# Altium footprint library STM32-V5_PCB封装(AD10).PcbLib: 68 footprints (part 3 of 5)
Each footprint in its own frame and in the unit in brackets; x right, y up, seen from the top. Pads: shape width x height; smd on the part's side, far side on the other; paste and mask are expansions set on the pad; w line width, h text height; cw(c..) or ccw(c..) is an arc to the next point about the centre after c.
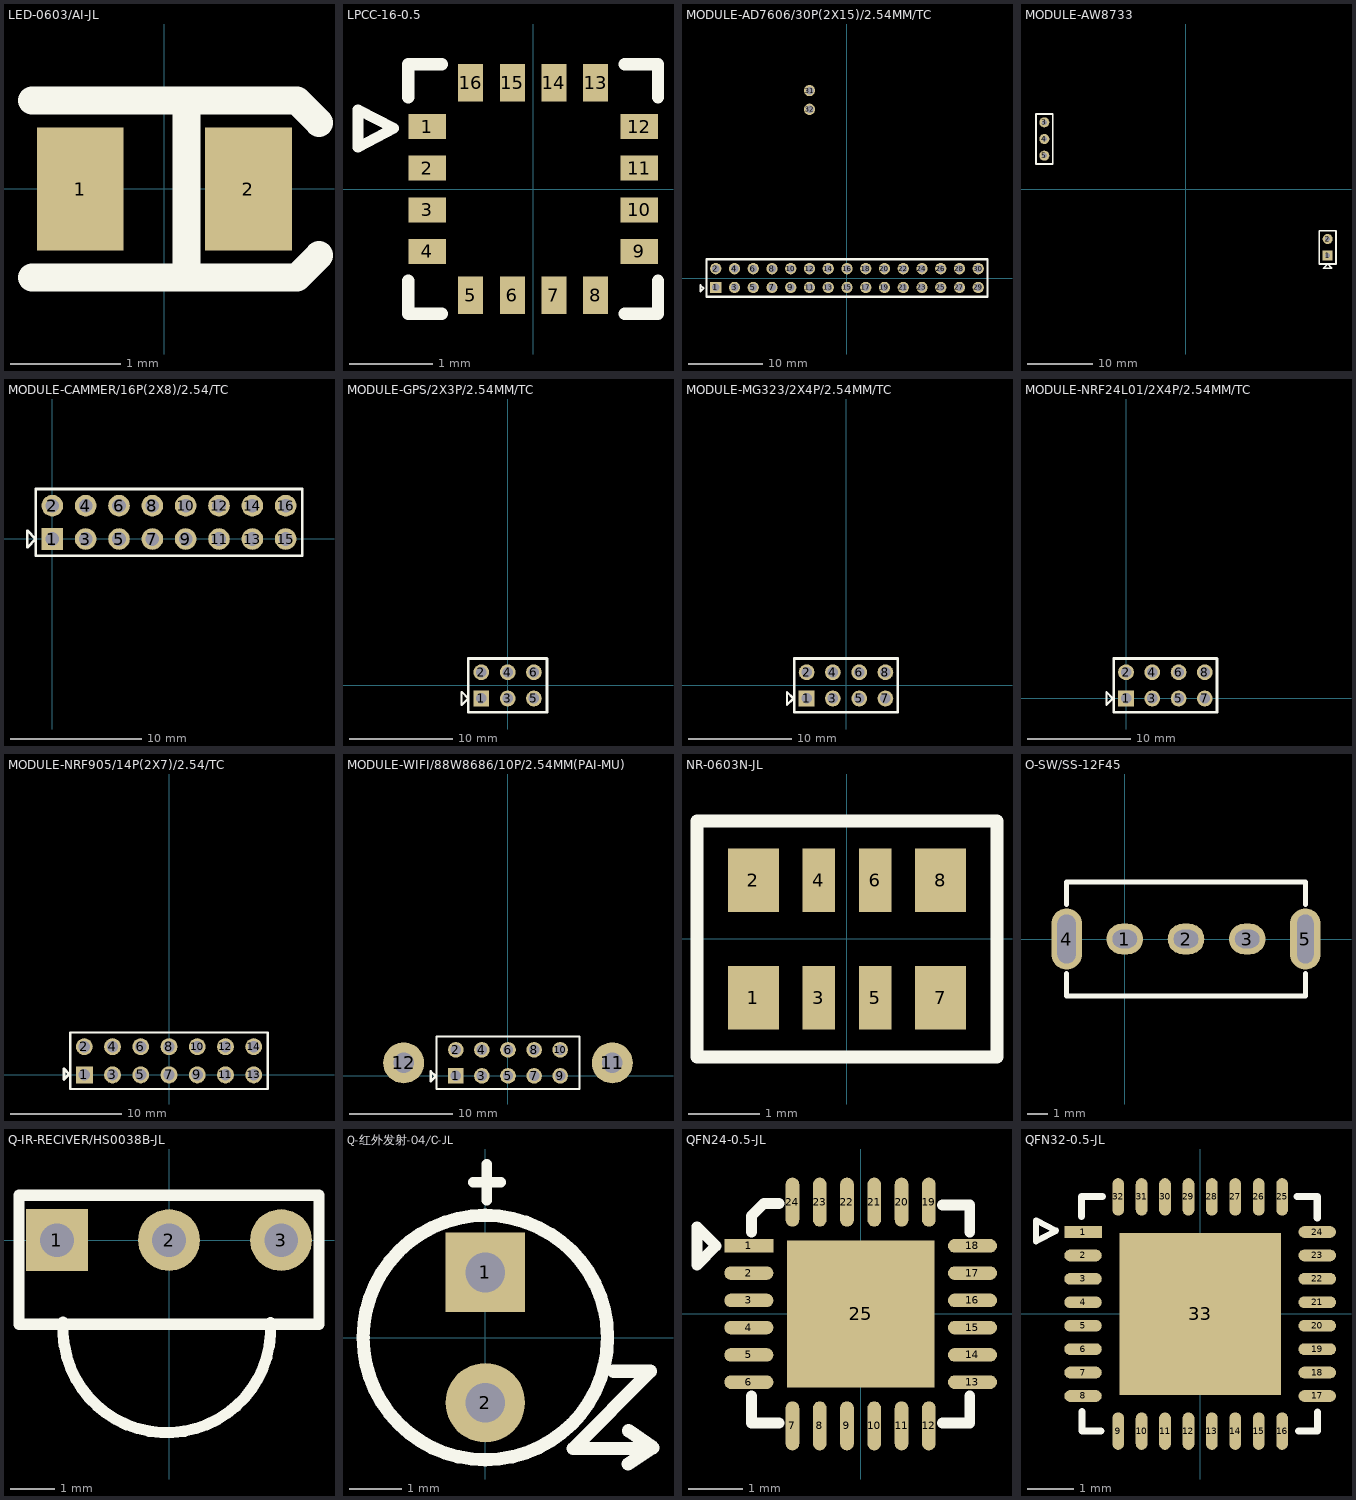
[diagram p2: the footprints below, top view; thin cyan lines are the x and y axes]

## LED-0603/AI-JL [mm]
pads (2):
  rect 0.787x1.11 smd: 1(-0.761,0) 2(0.762,0)
Top Overlay:
  lines w0.254: -1.2,-0.8 1.2,-0.8 1.4,-0.6 ; -1.2,0.8 1.2,0.8 1.4,0.6 ; 0.2,-0.7 0.2,0.7

## LPCC-16-0.5 [mm]
pads (16):
  rect 0.45x0.3 smd: 1(-1.275,0.75) 2(-1.275,0.25) 3(-1.275,-0.25) 4(-1.275,-0.75) 9(1.275,-0.75) 10(1.275,-0.25) 11(1.275,0.25) 12(1.275,0.75)
  rect 0.3x0.45 smd: 5(-0.75,-1.275) 6(-0.25,-1.275) 7(0.25,-1.275) 8(0.75,-1.275) 13(0.75,1.275) 14(0.25,1.275) 15(-0.25,1.275) 16(-0.75,1.275)
Top Overlay:
  lines w0.127: -2.104,0.5 -2.104,0.95 -1.673,0.73 -2.104,0.5
  lines w0.15: -1.5,-1.1 -1.5,-1.5 -1.1,-1.5 ; -1.5,1.1 -1.5,1.5 -1.1,1.5 ; 1.1,-1.5 1.5,-1.5 1.5,-1.1 ; 1.1,1.5 1.5,1.5 1.5,1.1

## MODULE-AD7606/30P(2X15)/2.54MM/TC [mil]
pads (32):
  rect 60x60 hole 40: 1(-700,-50)
  round 60 hole 40: 2(-700,50) 3(-600,-50) 4(-600,50) 5(-500,-50) 6(-500,50) 7(-400,-50) 8(-400,50) 9(-300,-50) 10(-300,50) 11(-200,-50) 12(-200,50) 13(-100,-50) 14(-100,50) 15(0,-50) 16(0,50) 17(100,-50) 18(100,50) 19(200,-50) 20(200,50) 21(300,-50) 22(300,50) 23(400,-50) 24(400,50) 25(500,-50) 26(500,50) 27(600,-50) 28(600,50) 29(700,-50) 30(700,50) 31(-200,1000) 32(-200,900)
Top Overlay:
  lines w10: -781.63,-71.14 -780.22,-68.31 -780.22,-71.61 -764.04,-55.43 -781.63,-37.84 -781.63,-71.14
  lines w12: -750,-100 750,-100 750,100 -750,100 -750,-100
Drill Drawing:
  lines w10: -800,-125 -800,1075 800,1075 800,-125 -800,-125 ; -50,850 -50,1050 750,1050 750,850 -50,850

## MODULE-AW8733 [mil]
pads (5):
  rect 60x60 hole 30: 1(850,-400)
  round 60 hole 30: 2(850,-300) 3(-850,400) 4(-850,300) 5(-850,200)
Top Overlay:
  lines w10: -900,150 -900,450 -800,450 -800,150 -900,150 ; 800,-450 800,-250 900,-250 900,-450 800,-450 ; 825,-475 875,-475 850,-450 825,-475
Drill Drawing:
  lines w10: -800,-550 -800,-600 ; -800,550 -800,600 ; -750,-600 -800,-600 ; -750,600 -800,600 ; -140.24,199.94 ccw(c-89.81,-150) -139.63,-500.03 ; -139.81,-500 370.56,-500 ; -139.81,200 370.56,200 ; 370.4,200.01 cw(c353.89,-150) 371.01,-499.98 ; 750,-600 800,-600 ; 750,600 800,600 ; 800,-550 800,-600 ; 800,550 800,600 ; -800,-600 -800,600 ; -800,-600 800,-600 ; -800,600 800,600 ; 800,-600 800,600

## MODULE-CAMMER/16P(2X8)/2.54/TC [mil]
pads (16):
  rect 65x65 hole 41: 1(0,0)
  round 65 hole 41: 2(0,100) 3(100,0) 4(100,100) 5(200,0) 6(200,100) 7(300,0) 8(300,100) 9(400,0) 10(400,100) 11(500,0) 12(500,100) 13(600,0) 14(600,100) 15(700,0) 16(700,100)
Top Overlay:
  lines w7.87: -75,-25 -75,25 -50,0 -75,-25 ; -50,-50 -50,150 750,150 750,-50 -50,-50
Drill Drawing:
  lines w7.87: -100,-100 -100,150 800,150 800,-100 -100,-100 ; 200,-300 200,-100 500,-100 500,-300 200,-300

## MODULE-GPS/2X3P/2.54MM/TC [mil]
pads (6):
  rect 60x60 hole 40: 1(-100,-50)
  round 60 hole 40: 2(-100,50) 3(0,-50) 4(0,50) 5(100,-50) 6(100,50)
Top Overlay:
  lines w7.87: -175,-75 -175,-25 -150,-50 -175,-75
  lines w10: -150,-102.36 150,-102.36 150,102.36 -150,102.36 -150,-102.36
Drill Drawing:
  lines w10: -324.01,-109.05 -324.01,1032.68 326.77,1032.68 326.77,-109.05 -324.01,-109.05

## MODULE-MG323/2X4P/2.54MM/TC [mil]
pads (8):
  rect 60x60 hole 40: 1(-150,-50)
  round 60 hole 40: 2(-150,50) 3(-50,-50) 4(-50,50) 5(50,-50) 6(50,50) 7(150,-50) 8(150,50)
Top Overlay:
  lines w7.87: -225,-75 -225,-25 -200,-50 -225,-75
  lines w10: -196.46,-102.36 196.46,-102.36 196.46,102.36 -196.46,102.36 -196.46,-102.36
Drill Drawing:
  lines w10: -374.02,-109.05 -374.02,1032.68 381.5,1032.68 381.5,-109.05 -374.02,-109.05

## MODULE-NRF24L01/2X4P/2.54MM/TC [mil]
pads (8):
  rect 60x60 hole 40: 1(0,0)
  round 60 hole 40: 2(0,100) 3(100,0) 4(100,100) 5(200,0) 6(200,100) 7(300,0) 8(300,100)
Top Overlay:
  lines w7.87: -75,-25 -75,25 -50,0 -75,-25
  lines w10: -46.46,-52.36 346.46,-52.36 346.46,152.36 -46.46,152.36 -46.46,-52.36
Drill Drawing:
  lines w10: -59.06,-59.06 -59.06,1082.68 531.5,1082.68 531.5,-59.06 -59.06,-59.06

## MODULE-NRF905/14P(2X7)/2.54/TC [mil]
pads (14):
  rect 60x60 hole 40: 1(-300,0)
  round 60 hole 40: 2(-300,100) 3(-200,0) 4(-200,100) 5(-100,0) 6(-100,100) 7(0,0) 8(0,100) 9(100,0) 10(100,100) 11(200,0) 12(200,100) 13(300,0) 14(300,100)
Top Overlay:
  lines w7.87: -350,-50 -350,150 350,150 350,-50 -350,-50
  lines w10: -372.52,-16.65 -353.33,2.54 -353.33,3.03 -353.82,3.03 -372.52,21.73 -372.52,-16.65
Drill Drawing:
  lines w7.87: -374.02,-50 -374.02,1012.99 374.01,1012.99 374.01,-50 -374.02,-50

## MODULE-WIFI/88W8686/10P/2.54MM(PAI-MU) [mil]
pads (12):
  rect 60x60 hole 40: 1(-200,0)
  round 60 hole 40: 2(-200,100) 3(-100,0) 4(-100,100) 5(0,0) 6(0,100) 7(100,0) 8(100,100) 9(200,0) 10(200,100)
  round 157.48 hole 78.74: 11(400,50) 12(-400,50)
Top Overlay:
  lines w7.87: -274.02,-50.16 274.68,-50.16 274.68,150.35 -274.02,150.35 -274.02,-50.16
  lines w10: -296.65,-20.87 -277.46,-1.67 -277.46,-1.18 -277.95,-1.18 -296.65,17.52 -296.65,-20.87
Drill Drawing:
  lines w7.87: -500,-50 500,-50 500,1100 -500,1100 -500,-50

## NR-0603N-JL [mm]
pads (8):
  rect 0.71x0.89 smd: 1(-1.31,-0.825) 2(-1.31,0.825) 7(1.31,-0.825) 8(1.31,0.825)
  rect 0.46x0.89 smd: 3(-0.395,-0.825) 4(-0.395,0.825) 5(0.395,-0.825) 6(0.395,0.825)
Top Overlay:
  lines w0.178: -2.1,-1.651 -2.1,1.651 2.1,1.651 2.1,-1.651 -2.1,-1.651

## O-SW/SS-12F45 [mm]
pads (5):
  oval 1.8x1.5 hole 0.9 slot 1.2 at 0 deg: 1(0,0) 2(3,0) 3(6,0)
  oval 1.5x3 hole 0.9 slot 2.4 at 90 deg: 4(-2.85,0)
  oval 1.5x3 hole 0.8 slot 2.4 at 90 deg: 5(8.85,0)
Top Overlay:
  lines w0.254: -2.85,-1.7 -2.85,-2.8 8.85,-2.8 8.85,-1.7 ; -2.85,1.7 -2.85,2.8 8.85,2.8 8.85,1.7

## Q-IR-RECIVER/HS0038B-JL [mm]
pads (3):
  rect 1.4x1.4 hole 0.762: 1(-2.54,0)
  round 1.4 hole 0.762: 2(0,0) 3(2.54,0)
Top Overlay:
  lines w0.254: -2.4,-1.863 ccw(c-0.05,-2.011) 2.3,-1.867 ; -3.4,-1.905 -3.4,1.016 3.4,1.016 3.4,-1.905 -3.4,-1.905

## Q-红外发射-04/C-JL [mil]
pads (2):
  rect 60x60 hole 30: 1(0,49.21)
  round 60 hole 30: 2(0,-49.21)
Top Overlay:
  circle w10: c0,0 r92.32
  lines w7.87: -9.06,117.32 11.81,117.32 ; 1.18,103.54 1.18,131.1
  lines w10: 96.77,-25.47 124.68,-25.47 66.34,-83.82 119.65,-83.82 ; 107.76,-95.51 126.53,-83.15 108.23,-70.31

## QFN24-0.5-JL [mm]
pads (25):
  rect 0.9x0.25 smd: 1(-2.05,1.25)
  oval 0.9x0.25 smd: 2(-2.05,0.75) 3(-2.05,0.25) 4(-2.05,-0.25) 5(-2.05,-0.75) 6(-2.05,-1.25) 13(2.05,-1.25) 14(2.05,-0.75) 15(2.05,-0.25) 16(2.05,0.25) 17(2.05,0.75) 18(2.05,1.25)
  oval 0.25x0.9 smd: 7(-1.25,-2.05) 8(-0.75,-2.05) 9(-0.25,-2.05) 10(0.25,-2.05) 11(0.75,-2.05) 12(1.25,-2.05) 19(1.25,2.05) 20(0.75,2.05) 21(0.25,2.05) 22(-0.25,2.05) 23(-0.75,2.05) 24(-1.25,2.05)
  rect 2.7x2.7 smd: 25(0,0)
Top Overlay:
  lines w0.2: -2,-1.5 -2,-2 -1.5,-2 ; -2,1.5 -2,1.8 -1.775,2.025 -1.5,2.025 ; 1.5,-2 2,-2 2,-1.5 ; 1.5,2 2,2 2,1.5 ; -3,0.9 -2.65,1.25 -3,1.6 -3,0.9

## QFN32-0.5-JL [mm]
pads (33):
  rect 0.8x0.25 smd: 1(-2.5,1.75)
  oval 0.8x0.25 smd: 2(-2.5,1.25) 3(-2.5,0.75) 4(-2.5,0.25) 5(-2.5,-0.25) 6(-2.5,-0.75) 7(-2.5,-1.25) 8(-2.5,-1.75) 17(2.5,-1.75) 18(2.5,-1.25) 19(2.5,-0.75) 20(2.5,-0.25) 21(2.5,0.25) 22(2.5,0.75) 23(2.5,1.25) 24(2.5,1.75)
  oval 0.25x0.8 smd: 9(-1.75,-2.5) 10(-1.25,-2.5) 11(-0.75,-2.5) 12(-0.25,-2.5) 13(0.25,-2.5) 14(0.75,-2.5) 15(1.25,-2.5) 16(1.75,-2.5) 25(1.75,2.5) 26(1.25,2.5) 27(0.75,2.5) 28(0.25,2.5) 29(-0.25,2.5) 30(-0.75,2.5) 31(-1.25,2.5) 32(-1.75,2.5)
  rect 3.45x3.45 smd: 33(0,0)
Top Overlay:
  lines w0.127: -3.504,1.55 -3.504,2 -3.073,1.78 -3.504,1.55
  lines w0.15: -2.53,2.08 -2.53,2.51 -2.09,2.51 ; -2.52,-2.08 -2.52,-2.5 -2.12,-2.5 ; 2.07,2.51 2.5,2.51 2.5,2.05 ; 2.1,-2.5 2.51,-2.5 2.51,-2.09